# Altium schematic symbol library mechanical_spacers.SchLib: 3 symbols
Pins are listed as number, name and electrical type; pins without a type are passive.

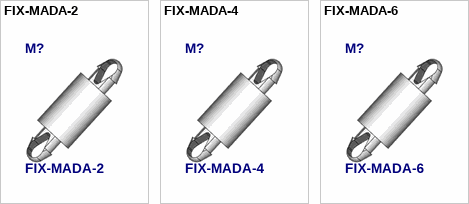
[diagram p0: symbols FIX-MADA-2 to FIX-MADA-6]

## FIX-MADA-2
designator M?
Nylon PCB Distance Peg, 2mm, 2.5mm PCB Hole, 1,6mm PCB Thickness; Supplier 1: TME; Supplier Part Number 1: FIX-MADA-2
footprint FIX-MADA-2

## FIX-MADA-4
designator M?
Nylon PCB Distance Peg, 4mm, 2.5mm PCB Hole, 1,6mm PCB Thickness; Supplier 1: TME; Supplier Part Number 1: FIX-MADA-4
footprint FIX-MADA-4

## FIX-MADA-6
designator M?
Nylon PCB Distance Peg, 6mm, 2.5mm PCB Hole, 1,6mm PCB Thickness; Supplier 1: TME; Supplier Part Number 1: FIX-MADA-6
footprint FIX-MADA-6